# Altium integrated library CRCW08053K74FKEA.IntLib: 1 symbol
Pins are listed as number, name and electrical type; pins without a type are passive.

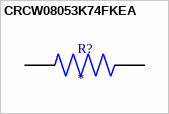
[diagram p0: symbol CRCW08053K74FKEA]

## CRCW08053K74FKEA
designator R?
Resistor;Thick Film;3.74 Kilohms;0.125 W;1%;SMT;0805;TCR 37 ppm/DegC;TR | Vishay Dale CRCW08053K74FKEA; SnapEDA_Link: https://www.snapeda.com/parts/CRCW08053K74FKEA/Vishay+Dale/view-part/?ref=snap; Package: 2012 Vishay; Value: *; MF: Vishay Dale; MP: CRCW08053K74FKEA; Check_prices: https://www.snapeda.com/parts/CRCW08053K74FKEA/Vishay+Dale/view-part/?ref=eda
footprint RESC2012X50N
pins: 1, 2